# EAGLE library part MINI-FIT_BMI_8 (library microLib)
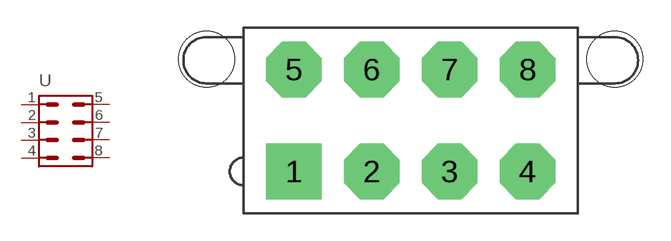
[diagram p11: symbol with the pads of MINI-FIT_BMI_HEAD_8; footprint MINI-FIT_BMI_HEAD_8]

Designator prefix -

## MINI-FIT_BMI_8  [MINI-FIT_BMI_HEAD_8]
1  1
2  2
3  3
4  4
5  5
6  6
7  7
8  8

## Footprint MINI-FIT_BMI_HEAD_8 (pad centres in mm)
drill 1.4 pad 3 square: 1 -6.3,-2.75
drill 1.4 pad 3 octagon: 2 -2.1,-2.75; 3 2.1,-2.75; 4 6.3,-2.75; 5 -6.3,2.75; 6 -2.1,2.75; 7 2.1,2.75; 8 6.3,2.75
hole 3 at 11,3.31
hole 3 at -11,3.31